# Altium schematic symbol library PIC18F47Q84-I_PT.SchLib: 1 symbol
Pins are listed as number, name and electrical type; pins without a type are passive.

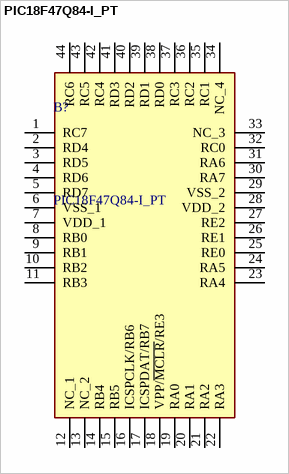
[diagram p0: symbol PIC18F47Q84-I_PT]

## PIC18F47Q84-I_PT
designator B?
8-bit Microcontrollers - MCU CAN-FD, 128KB Flash, 13KB RAM, 12b ADC3, UTMR, DAC, Comp, PWM, CCP, CWG, HLT, WWDT, SCAN/CRC, ZCD, PPS,Comms IDLE/DOZE/PMD, JTAG; Manufacturer_Name: Microchip; Manufacturer_Part_Number: PIC18F47Q84-I/PT; Geometry.Height: 1.2mm; Mouser Part Number: 579-PIC18F47Q84-I/PT; Mouser Price/Stock: https://www.mouser.co.uk/ProductDetail/Microchip-Technology/PIC18F47Q84-I-PT?qs=d0WKAl%252BL4KYthTnAmf%2FYSg%3D%3D; Datasheet Link: https://ww1.microchip.com/downloads/en/DeviceDoc/PIC18F27-47-57Q84-Data-Sheet-40002213D.pdf
footprint QFP80P1200X1200X120-44N
pins: 1 RC7, 2 RD4, 3 RD5, 4 RD6, 5 RD7, 6 VSS_1, 7 VDD_1, 8 RB0, 9 RB1, 10 RB2, 11 RB3, 12 NC_1, 13 NC_2, 14 RB4, 15 RB5, 16 ICSPCLK/RB6, 17 ICSPDAT/RB7, 18 VPP/~{MCLR}/RE3, 19 RA0, 20 RA1, 21 RA2, 22 RA3, 23 RA4, 24 RA5, 25 RE0, 26 RE1, 27 RE2, 28 VDD_2, 29 VSS_2, 30 RA7, 31 RA6, 32 RC0, 33 NC_3, 34 NC_4, 35 RC1, 36 RC2, 37 RC3, 38 RD0, 39 RD1, 40 RD2, 41 RD3, 42 RC4, 43 RC5, 44 RC6